# EAGLE library part DSP_CARD_SLOT_EXT (library F030NG)
DSP add-on card socket, 60pin / TE 5650090-6
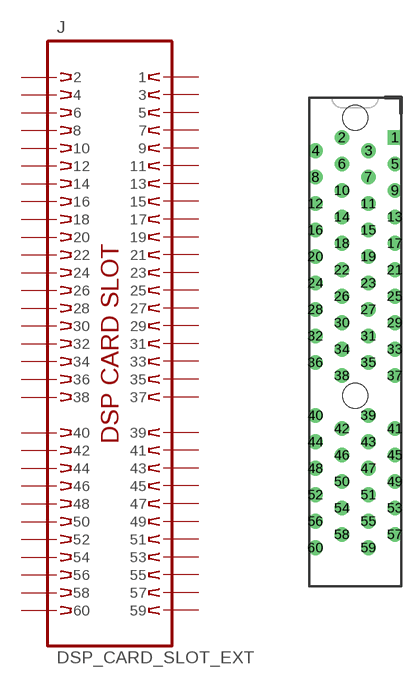
[diagram p74: symbol with the pads of TE_5650090-6; footprint TE_5650090-6]

Designator prefix J

## DSP_CARD_SLOT_EXT  [TE_5650090-6]
1  1  pas
2  2  pas
3  3  pas
4  4  pas
5  5  pas
6  6  pas
7  7  pas
8  8  pas
9  9  pas
10  10  pas
11  11  pas
12  12  pas
13  13  pas
14  14  pas
15  15  pas
16  16  pas
17  17  pas
18  18  pas
19  19  pas
20  20  pas
21  21  pas
22  22  pas
23  23  pas
24  24  pas
25  25  pas
26  26  pas
27  27  pas
28  28  pas
29  29  pas
30  30  pas
31  31  pas
32  32  pas
33  33  pas
34  34  pas
35  35  pas
36  36  pas
37  37  pas
38  38  pas
39  39  pas
40  40  pas
41  41  pas
42  42  pas
43  43  pas
44  44  pas
45  45  pas
46  46  pas
47  47  pas
48  48  pas
49  49  pas
50  50  pas
51  51  pas
52  52  pas
53  53  pas
54  54  pas
55  55  pas
56  56  pas
57  57  pas
58  58  pas
59  59  pas
60  60  pas

## Footprint TE_5650090-6 (pad centres in mm)
PIN HEADER
drill 0.9 pad 1.2 square: 1 3.81,24.77
drill 0.9 pad 1.2: 2 -1.27,24.77; 3 1.27,23.5; 4 -3.81,23.5; 5 3.81,22.23; 6 -1.27,22.23; 7 1.27,20.96; 8 -3.81,20.96; 9 3.81,19.69; 10 -1.27,19.69; 11 1.27,18.42; 12 -3.81,18.42; 13 3.81,17.15; 14 -1.27,17.15; 15 1.27,15.88; 16 -3.81,15.88; 17 3.81,14.61; 18 -1.27,14.61; 19 1.27,13.34; 20 -3.81,13.34; 21 3.81,12.07; 22 -1.27,12.07; 23 1.27,10.8; 24 -3.81,10.8; 25 3.81,9.53; 26 -1.27,9.53; 27 1.27,8.26; 28 -3.81,8.26; 29 3.81,6.99; 30 -1.27,6.99; 31 1.27,5.72; 32 -3.81,5.72; 33 3.81,4.45; 34 -1.27,4.45; 35 1.27,3.18; 36 -3.81,3.18; 37 3.81,1.91; 38 -1.27,1.91; 39 1.27,-1.9; 40 -3.81,-1.9; 41 3.81,-3.17; 42 -1.27,-3.17; 43 1.27,-4.44; 44 -3.81,-4.44; 45 3.81,-5.71; 46 -1.27,-5.71; 47 1.27,-6.98; 48 -3.81,-6.98; 49 3.81,-8.25; 50 -1.27,-8.25; 51 1.27,-9.52; 52 -3.81,-9.52; 53 3.81,-10.79; 54 -1.27,-10.79; 55 1.27,-12.06; 56 -3.81,-12.06; 57 3.81,-13.33; 58 -1.27,-13.33; 59 1.27,-14.6; 60 -3.81,-14.6
hole 2.4 at 0,0
hole 2.4 at 0,26.67